# EAGLE library part LT1763CS8 (library TEABOX-LIB)
VOLTAGE REGULATOR with shutdown
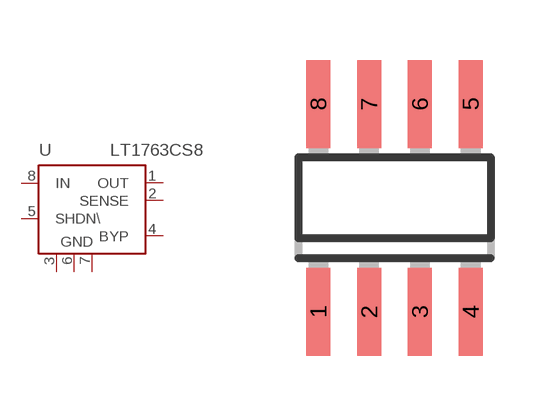
[diagram p17: symbol with the pads of SOIC8; footprint SOIC8]

Designator prefix U

## LT1763CS8  [SOIC8]
1  OUT  pwr
2  SENSE  in
3  GND  sup
4  BYP
5  SHDN\  in
6  GND1  sup
7  GND2  sup
8  IN  in

## Footprint SOIC8 (pad centres in mm)
Small Outline IC
smd 0.6 x 2.2: 1 -1.905,-2.6; 2 -0.635,-2.6; 3 0.635,-2.6; 4 1.905,-2.6; 5 1.905,2.6; 6 0.635,2.6; 7 -0.635,2.6; 8 -1.905,2.6